# Altium footprint library DBS.PcbLib: 1 footprints
Each footprint in its own frame and in the unit in brackets; x right, y up, seen from the top. Pads: shape width x height; smd on the part's side, far side on the other; paste and mask are expansions set on the pad; w line width, h text height; cw(c..) or ccw(c..) is an arc to the next point about the centre after c.
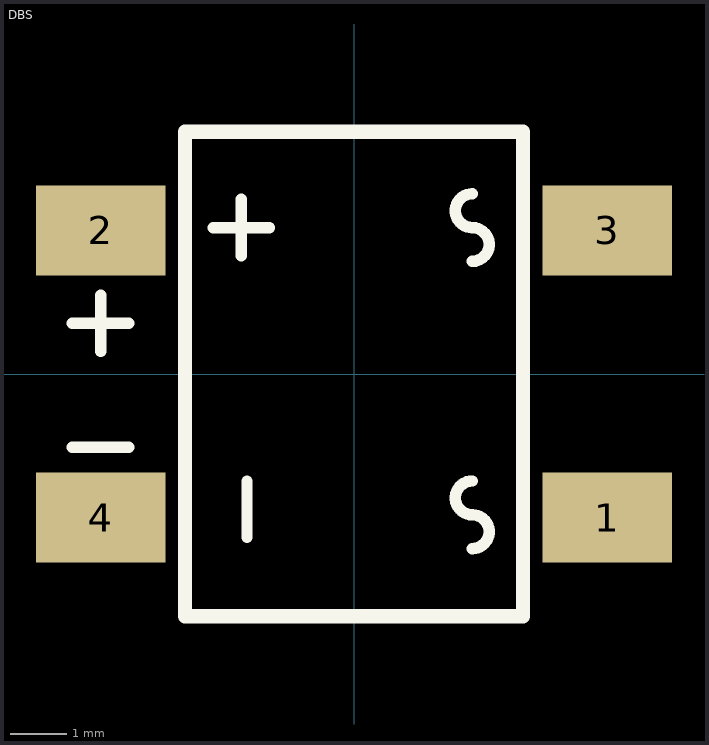
[diagram p0: the footprint, top view; thin cyan lines are the x and y axes]

## DBS [mm]
pads (4):
  rect 2.3x1.6 smd: 1(4.5,-2.55) 2(-4.5,2.55) 3(4.5,2.55) 4(-4.5,-2.55)
Top Overlay:
  lines w0.203: -5,-1.3 -4,-1.3 ; -5,0.9 -4,0.9 ; -4.5,0.4 -4.5,1.4 ; -2.5,2.6 -1.5,2.6 ; -2,2.1 -2,3.1 ; -1.9,-2.9 -1.9,-1.9 ; 2.1,-3.1 ccw(c2.1,-2.8) 2.1,-2.5 cw(c2.1,-2.2) 2.1,-1.9 ; 2.1,2 ccw(c2.1,2.3) 2.1,2.6 cw(c2.1,2.9) 2.1,3.2
  lines w0.254: -3,-4.3 3,-4.3 3,4.3 -3,4.3 -3,-4.3